# EAGLE library part SMALL_HEADER (library SIM900D)
Useful conections 6x2 pinhead
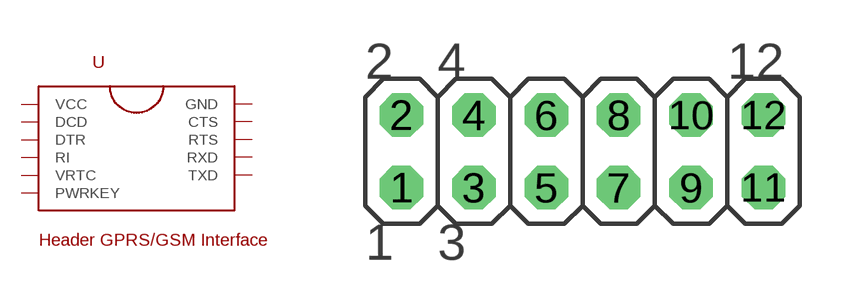
[diagram p3: symbol with the pads of SMALL_HEADER; footprint SMALL_HEADER]

Designator prefix -

## SMALL_HEADER  [SMALL_HEADER]
1  VCC
2  GND
3  DCD
4  CTS
5  DTR
6  RTS
7  RI
8  RXD
9  VRTC
10  TXD
11  PWRKEY

## Footprint SMALL_HEADER (pad centres in mm)
drill 1.016 octagon: 1 -6.35,-1.27; 2 -6.35,1.27; 3 -3.81,-1.27; 4 -3.81,1.27; 5 -1.27,-1.27; 6 -1.27,1.27; 7 1.27,-1.27; 8 1.27,1.27; 9 3.81,-1.27; 10 3.81,1.27; 11 6.35,-1.27; 12 6.35,1.27